# Altium footprint library SW4.5X3.2-4L.PcbLib: 1 footprints
Each footprint in its own frame and in the unit in brackets; x right, y up, seen from the top. Pads: shape width x height; smd on the part's side, far side on the other; paste and mask are expansions set on the pad; w line width, h text height; cw(c..) or ccw(c..) is an arc to the next point about the centre after c.
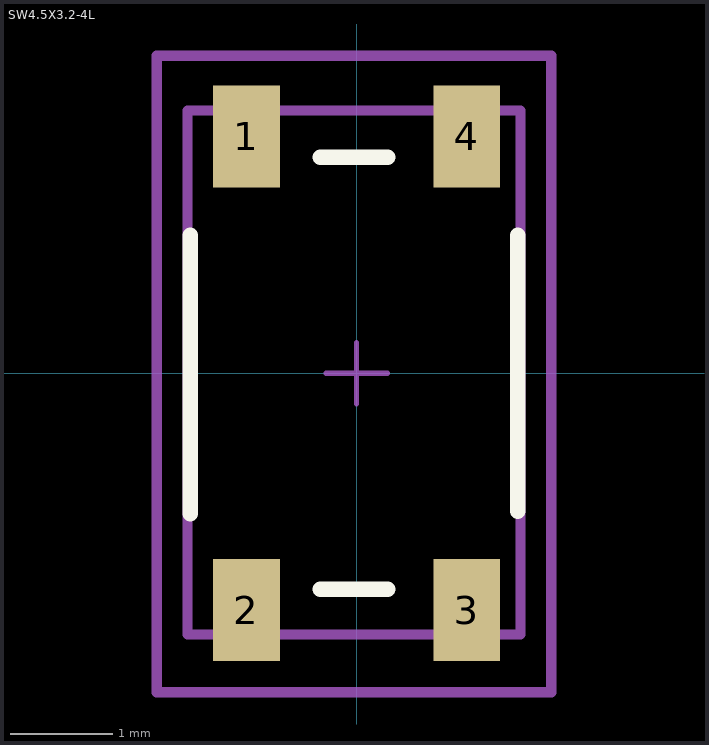
[diagram p0: the footprint, top view; thin cyan lines are the x and y axes]

## SW4.5X3.2-4L [mm] "Pitch 3mm Body4.5X3.2mm High2.4mm"
height 7.1
pads (4):
  rect 0.65x1 smd: 1(-1.075,2.311) 2(-1.075,-2.311) 3(1.075,-2.311) 4(1.075,2.311)
Top Overlay:
  lines w0.152: -1.626,-1.372 -1.626,1.346 ; -0.356,-2.108 0.305,-2.108 ; -0.356,2.108 0.305,2.108 ; 1.575,-1.346 1.575,1.346
Mechanical 13:
  lines w0.1: -1.651,-2.55 1.6,-2.55 1.6,2.565 -1.651,2.565 -1.651,-2.55
Mechanical 15:
  lines w0.05: -0.3,0 0.3,0 ; 0,-0.3 0,0.3
  lines w0.1: -1.951,-3.113 1.9,-3.113 1.9,3.099 -1.951,3.099 -1.951,-3.113
Mechanical 29:
  lines w0.1: -1.651,-2.55 -1.651,2.565 1.6,2.565 1.6,-2.55 -1.651,-2.55
  text ".Designator" at -0.8,-0.5 h1.52
3D body: height 1.65, standoff 1.6, extent -1.6,-2.1 1.59,2.1
3D body: height 0.1, standoff 0, extent -1.35,-2.55 1.35,2.55
3D body: height 2.4, standoff 0, extent -1.6,-2.1 1.6,2.1